# EAGLE library part CPL-SBC-INTEL-EDISON (library TinWhiskers)
Single-Board Computer: Intel Edison, 70-Pin receptacle connector; Package: SMT, Vertical; Datasheet: http://akizukidenshi.com/download/ds/intel/edison-module_HG_331189-002.pdf
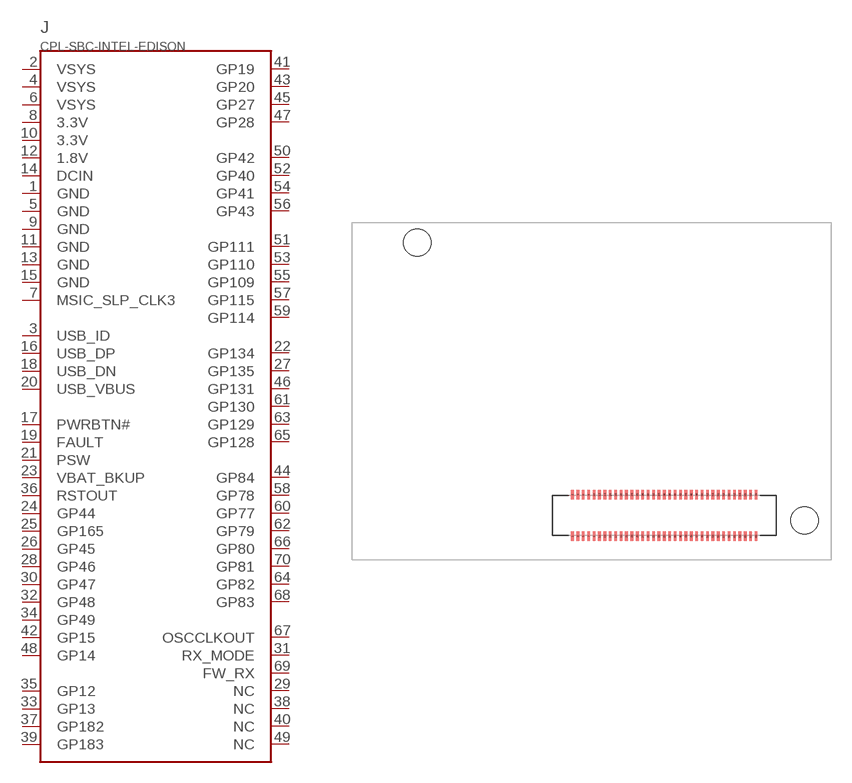
[diagram p23: symbol with the pads of DF40HC(3.0)-70DS-0.4V(51); footprint DF40HC(3.0)-70DS-0.4V(51)]

Designator prefix J

## CPL-SBC-INTEL-EDISON  [DF40HC(3.0)-70DS-0.4V(51)]
1  GND
2  VSYS
3  USB_ID
4  VSYS
5  GND
6  VSYS
7  MSIC_SLP_CLK3
8  3.3V
9  GND
10  3.3V
11  GND
12  1.8V
13  GND
14  DCIN
15  GND
16  USB_DP
17  PWRBTN#
18  USB_DN
19  FAULT
20  USB_VBUS
21  PSW
22  GP134
23  VBAT_BKUP
24  GP44
25  GP165
26  GP45
27  GP135
28  GP46
29  NC
30  GP47
31  RX_MODE
32  GP48
33  GP13
34  GP49
35  GP12
36  RSTOUT
37  GP182
38  NC
39  GP183
40  NC
41  GP19
42  GP15
43  GP20
44  GP84
45  GP27
46  GP131
47  GP28
48  GP14
49  NC
50  GP42
51  GP111
52  GP40
53  GP110
54  GP41
55  GP109
56  GP43
57  GP115
58  GP78
59  GP114
60  GP77
61  GP130
62  GP79
63  GP129
64  GP82
65  GP128
66  GP80
67  OSCCLKOUT
68  GP83
69  FW_RX
70  GP81

## Footprint DF40HC(3.0)-70DS-0.4V(51) (pad centres in mm)
Hirose Connector: Receptacle, Vertical, 70-pin 0.4MM-Pitch; Package: SMT Datasheet: http://www.mouser.com/ds/2/185/ed_DF40_20140305-337786.pdf
smd 0.2 x 0.7: 1 -6.8,-1.54; 2 -6.8,1.54; 3 -6.4,-1.54; 4 -6.4,1.54; 5 -6,-1.54; 6 -6,1.54; 7 -5.6,-1.54; 8 -5.6,1.54; 9 -5.2,-1.54; 10 -5.2,1.54; 11 -4.8,-1.54; 12 -4.8,1.54; 13 -4.4,-1.54; 14 -4.4,1.54; 15 -4,-1.54; 16 -4,1.54; 17 -3.6,-1.54; 18 -3.6,1.54; 19 -3.2,-1.54; 20 -3.2,1.54; 21 -2.8,-1.54; 22 -2.8,1.54; 23 -2.4,-1.54; 24 -2.4,1.54; 25 -2,-1.54; 26 -2,1.54; 27 -1.6,-1.54; 28 -1.6,1.54; 29 -1.2,-1.54; 30 -1.2,1.54; 31 -0.8,-1.54; 32 -0.8,1.54; 33 -0.4,-1.54; 34 -0.4,1.54; 35 0,-1.54; 36 0,1.54; 37 0.4,-1.54; 38 0.4,1.54; 39 0.8,-1.54; 40 0.8,1.54; 41 1.2,-1.54; 42 1.2,1.54; 43 1.6,-1.54; 44 1.6,1.54; 45 2,-1.54; 46 2,1.54; 47 2.4,-1.54; 48 2.4,1.54; 49 2.8,-1.54; 50 2.8,1.54; 51 3.2,-1.54; 52 3.2,1.54; 53 3.6,-1.54; 54 3.6,1.54; 55 4,-1.54; 56 4,1.54; 57 4.4,-1.54; 58 4.4,1.54; 59 4.8,-1.54; 60 4.8,1.54; 61 5.2,-1.54; 62 5.2,1.54; 63 5.6,-1.54; 64 5.6,1.54; 65 6,-1.54; 66 6,1.54; 67 6.4,-1.54; 68 6.4,1.54; 69 6.8,-1.54; 70 6.8,1.54
hole 2 at 10.39,-0.37
hole 2 at -18.3,20.23